# Altium schematic symbol library PBH6UEENAG1DBLK.SchLib: 1 symbol
Pins are listed as number, name and electrical type; pins without a type are passive.

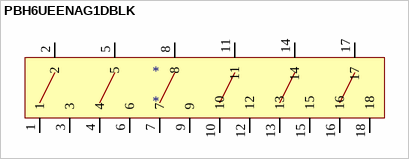
[diagram p0: symbol PBH6UEENAG1DBLK]

## PBH6UEENAG1DBLK
designator *
footprint PinHeader_2x09_P2.54mm_Vertical
pins: 1, 2, 3, 4, 5, 6, 7, 8, 9, 10, 11, 12, 13, 14, 15, 16, 17, 18